# EAGLE library part 610026243021 (library Eagle_BOARD-TO-BOARD_CONNECTORS (rev18b))
WR-PHD 2.54mm SMT Dual Socket Header Bottom Entry, 26 Pins=>Code : Con_BTB_SHD_2.54_2_610026243021 <http://katalog.we-online.de/media/images/eican/Con_BTB_SHD_2.54_2_6100xx243021_pf2.jpg> http://katalog.we-online.de/en/em/PHD_2_54_SMT_DUAL_SOCKET_HEADER_BOTTOM_ENTRY_6100XX243021 Created 2014-05-30, Karrer Zheng 2014 (C) Würth Elektronik
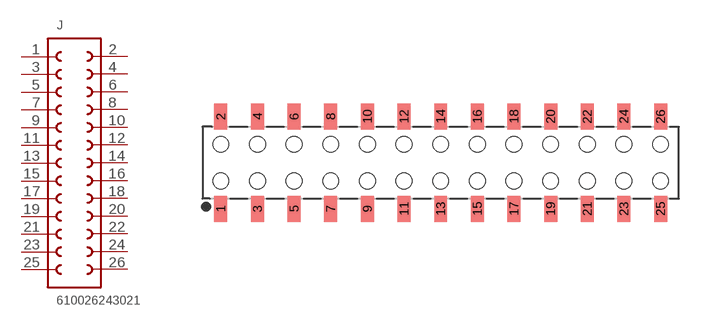
[diagram p185: symbol with the pads of 610026243021; footprint 610026243021]

Designator prefix J

## 610026243021  [610026243021]
1  1  pas
2  26  pas
3  2  pas
4  25  pas
5  3  pas
6  24  pas
7  4  pas
8  23  pas
9  5  pas
10  22  pas
11  6  pas
12  21  pas
13  7  pas
14  20  pas
15  8  pas
16  19  pas
17  9  pas
18  18  pas
19  10  pas
20  17  pas
21  11  pas
22  16  pas
23  12  pas
24  15  pas
25  13  pas
26  14  pas

## Footprint 610026243021 (pad centres in mm)
WR-PHD 2.54mm SMT Dual Socket Header Bottom Entry, 26 Pins
smd 0.9 x 1.8: 1 -15.24,-3.2; 2 -15.24,3.2; 3 -12.7,-3.2; 4 -12.7,3.2; 5 -10.16,-3.2; 6 -10.16,3.2; 7 -7.62,-3.2; 8 -7.62,3.2; 9 -5.08,-3.2; 10 -5.08,3.2; 11 -2.54,-3.2; 12 -2.54,3.2; 13 0,-3.2; 14 0,3.2; 15 2.54,-3.2; 16 2.54,3.2; 17 5.08,-3.2; 18 5.08,3.2; 19 7.62,-3.2; 20 7.62,3.2; 21 10.16,-3.2; 22 10.16,3.2; 23 12.7,-3.2; 24 12.7,3.2; 25 15.24,-3.2; 26 15.24,3.2
hole 1.1 at -15.24,1.27
hole 1.1 at -12.7,1.27
hole 1.1 at -12.7,-1.27
hole 1.1 at -15.24,-1.27
hole 1.1 at -10.16,1.27
hole 1.1 at -10.16,-1.27
hole 1.1 at -7.62,1.27
hole 1.1 at -7.62,-1.27
hole 1.1 at -5.08,-1.27
hole 1.1 at -5.08,1.27
hole 1.1 at -2.54,1.27
hole 1.1 at -2.54,-1.27
hole 1.1 at 0,-1.27
hole 1.1 at 0,1.27
hole 1.1 at 2.54,1.27
hole 1.1 at 2.54,-1.27
hole 1.1 at 5.08,1.27
hole 1.1 at 5.08,-1.27
hole 1.1 at 7.62,1.27
hole 1.1 at 7.62,-1.27
hole 1.1 at 10.16,1.27
hole 1.1 at 10.16,-1.27
hole 1.1 at 12.7,-1.27
hole 1.1 at 12.7,1.27
hole 1.1 at 15.24,1.27
hole 1.1 at 15.24,-1.27